# EAGLE library part DS1267 (library MlabPaja)
Dual Digital Poentiometer Chip
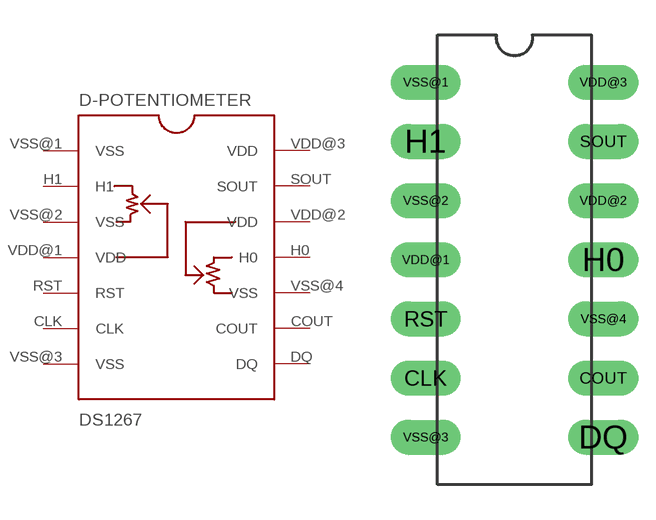
[diagram p5: symbol with the pads of 14PIN_NARROW; footprint 14PIN_NARROW]

Designator prefix D-POTENTIOMETER

## DS1267  [14PIN_NARROW]
CLK  CLK  in
COUT  COUT  out
DQ  DQ  in
H0  H0  pas
H1  H1  pas
RST  RST  in
SOUT  SOUT  out
VDD@1  VDD  pas
VDD@2  VDD  pas
VDD@3  VDD  pwr
VSS@1  VSS  pwr
VSS@2  VSS  pas
VSS@3  VSS  pwr
VSS@4  VSS  pas

## Footprint 14PIN_NARROW (pad centres in mm)
drill 1 long: CLK -3.81,-6.35; COUT 3.81,-6.35; DQ 3.81,-8.89; H0 3.81,-1.27; H1 -3.81,3.81; RST -3.81,-3.81; SOUT 3.81,3.81; VDD@1 -3.81,-1.27; VDD@2 3.81,1.27; VDD@3 3.81,6.35; VSS@1 -3.81,6.35; VSS@2 -3.81,1.27; VSS@3 -3.81,-8.89; VSS@4 3.81,-3.81